# Altium footprint library TC33X-2-103E.PcbLib: 2 footprints
Each footprint in its own frame and in the unit in brackets; x right, y up, seen from the top. Pads: shape width x height; smd on the part's side, far side on the other; paste and mask are expansions set on the pad; w line width, h text height; cw(c..) or ccw(c..) is an arc to the next point about the centre after c.
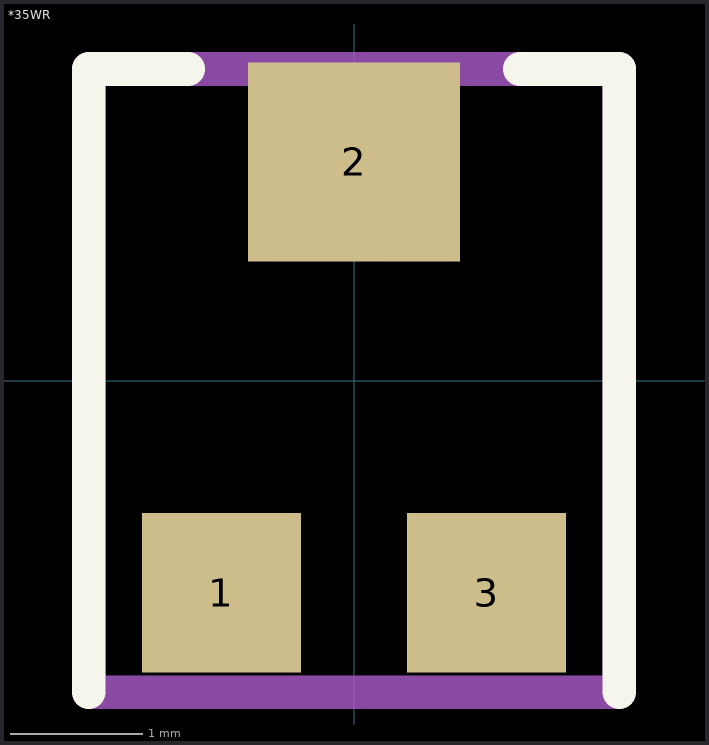
[diagram p0: the footprints below, top view; thin cyan lines are the x and y axes]

## *35WR [mm]
pads (3):
  rect 1.2x1.2 smd: 1(-1,-1.6) 3(1,-1.6)
  rect 1.6x1.5 smd: 2(0,1.65)
Top Overlay:
  lines w0.254: -2,-2.35 -2,2.35 -1.25,2.35 ; 1.25,2.35 2,2.35 2,-2.35
Mechanical 4:
  lines w0.254: -2,-2.35 2,-2.35 ; -2,-2.35 -2,2.35 ; -2,-2.35 2,-2.35 ; -2,-2.35 -2,2.35 ; -2,2.35 2,2.35 ; -2,2.35 2,2.35 ; 2,-2.35 2,2.35 ; 2,-2.35 2,2.35

## PCBComponent_1 [mm]